# EAGLE library part JOYSTICK_3WAYS (library SKAARHOJ)
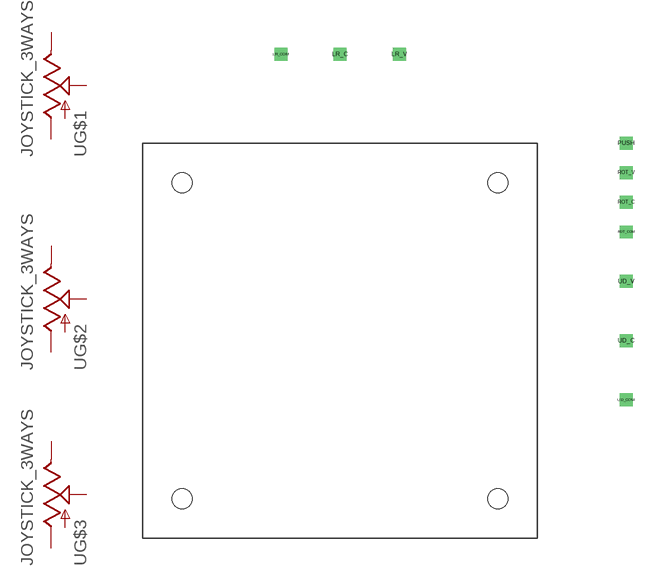
[diagram p38: symbol with the pads of JOYSTICK; footprint JOYSTICK]

Designator prefix -; gates G$1=POT G$2=POT G$3=POT

## JOYSTICK_3WAYS  [JOYSTICK]
LR_C  G$1:S  pas
LR_COM  G$1:A  pas
LR_V  G$1:E  pas
ROT_C  G$3:S  pas
ROT_COM  G$3:A  pas
ROT_V  G$3:E  pas
UD_C  G$2:S  pas
UD_COM  G$2:A  pas
UD_V  G$2:E  pas

## Footprint JOYSTICK (pad centres in mm)
drill 0.8 square: LR_C 0,29; LR_COM -6,29; LR_V 6,29; PUSH 29,20; ROT_C 29,14; ROT_COM 29,11; ROT_V 29,17; UD_C 29,0; UD_COM 29,-6; UD_V 29,6
hole 2 at -16,16
hole 2 at 16,16
hole 2 at 16,-16
hole 2 at -16,-16